# Altium schematic symbol library MMBZ5242BLT3G.SchLib: 1 symbol
Pins are listed as number, name and electrical type; pins without a type are passive.

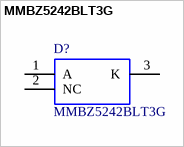
[diagram p0: symbol MMBZ5242BLT3G]

## MMBZ5242BLT3G
designator D?
225 mW Rating on FR-4 or FR-5 Board; Zener Voltage Range - 2.4 V to 91 V; Package Designed for Optimal Automated Board Assembly; Small Package Size for High Density Applications; ESD Rating of Class 3 (>16 KV) per Human Body Model Mechanical Characteristics; CASE: Void-free, transfer-molded, thermosetting plastic case; FINISH: Corrosion resistant finish, easily solderable; MAXIMUM CASE TEMPERATURE FOR SOLDERING PURPOSES: 260C for 10 Seconds; POLARITY: Cathode indicated by polarity band; FLAMMABILITY RATING:; Manufacturer_Name: onsemi; Geometry.Height: 1.11mm; Manufacturer_Part_Number: MMBZ5242BLT3G; Mouser Part Number: 863-MMBZ5242BLT3G; Mouser Price/Stock: https://www.mouser.co.uk/ProductDetail/onsemi/MMBZ5242BLT3G?qs=P4IOph%252Bbot8zm7%252BOlKh6Qw%3D%3D; Arrow Part Number: MMBZ5242BLT3G; Arrow Price/Stock: https://www.arrow.com/en/products/mmbz5242blt3g/on-semiconductor?utm_currency=USD&region=nac; Datasheet Link: https://www.onsemi.com/pub/Collateral/MMBZ5221BLT1-D.PDF
footprint SOT96P237X111-3N
pins: 1 A, 2 NC, 3 K